# EAGLE library part MICROSD-HRS_DM3D (library hrs_DM3D-SF)
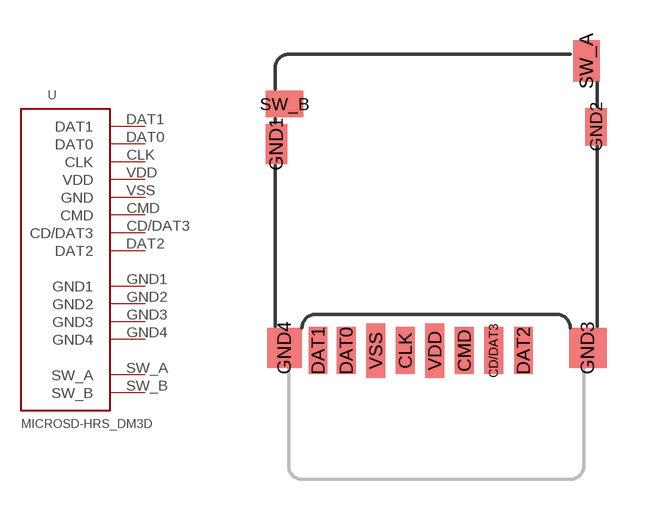
[diagram p1: symbol with the pads of DM3D; footprint DM3D]

Designator prefix -

## MICROSD-HRS_DM3D  [DM3D]
CD/DAT3  CD/DAT3
CLK  CLK
CMD  CMD
DAT0  DAT0
DAT1  DAT1
DAT2  DAT2
GND1  GND1
GND2  GND2
GND3  GND3
GND4  GND4
SW_A  SW_A
SW_B  SW_B
VDD  VDD
VSS  GND

## Footprint DM3D (pad centres in mm)
smd 0.7 x 1.75: CD/DAT3 8.15,0.45; CLK 4.85,0.45; CMD 7.05,0.45; DAT0 2.65,0.45; DAT1 1.6,0.45; DAT2 9.25,0.45
smd 0.8 x 1.5: GND1 0.05,8.15
smd 0.8 x 1.4: GND2 11.95,8.8
smd 1.4 x 1.5: GND3 11.65,0.55
smd 1.3 x 1.5: GND4 0.35,0.55
smd 1 x 1.55: SW_A 11.6,11.25
smd 1.4 x 1: SW_B 0.35,9.65
smd 0.7 x 2.032: VDD 5.95,0.45; VSS 3.75,0.45